# Altium schematic symbol library 电压参考.SchLib: 2 symbols
Pins are listed as number, name and electrical type; pins without a type are passive.

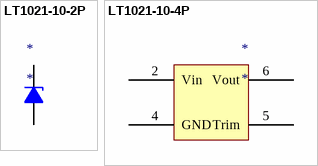
[diagram p0: symbols LT1021-10-2P to LT1021-10-4P]

## LT1021-10-2P
designator *
10V Precision Reference 2 Pin Config
footprint DIP8-300_MH (带底座 9.4*7.6*3.8(长宽高）)
pins: 4 A, 6 K

## LT1021-10-4P
designator *
10V Precision Reference 4 Pin Config
footprint DIP8-300_MH (带底座 9.4*7.6*3.8(长宽高）)
pins: 2 Vin, 4 GND, 5 Trim, 6 Vout